# EAGLE library part AD7980 (library ADC)
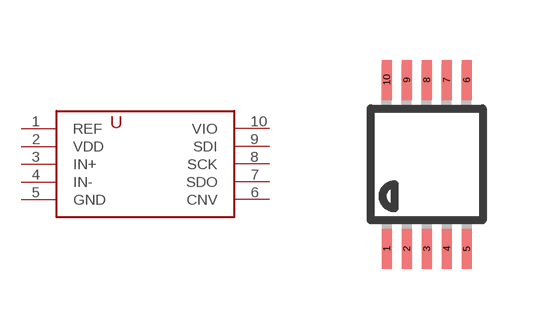
[diagram p2: symbol with the pads of MSOP10; footprint MSOP10]

Designator prefix -

## AD7980  [MSOP10]
1  REF
2  VDD
3  IN+
4  IN-
5  GND
6  CNV
7  SDO
8  SCK
9  SDI
10  VIO

## Footprint MSOP10 (pad centres in mm)
10-Lead Mini Small Outline Package [MSOP] (RM-10) Source: http://www.analog.com/UploadedFiles/Data_Sheets/35641221898805SSM2167_b.pdf COMPLIANT TO JEDEC STANDARDS MO-187BA
smd 0.25 x 1: 1 -1,-2.113; 2 -0.5,-2.113; 3 0,-2.113; 4 0.5,-2.113; 5 1,-2.113; 6 1,2.113; 7 0.5,2.113; 8 0,2.113; 9 -0.5,2.113; 10 -1,2.113